# Altium footprint library 插座.PcbLib: 91 footprints (part 4 of 6)
Each footprint in its own frame and in the unit in brackets; x right, y up, seen from the top. Pads: shape width x height; smd on the part's side, far side on the other; paste and mask are expansions set on the pad; w line width, h text height; cw(c..) or ccw(c..) is an arc to the next point about the centre after c.
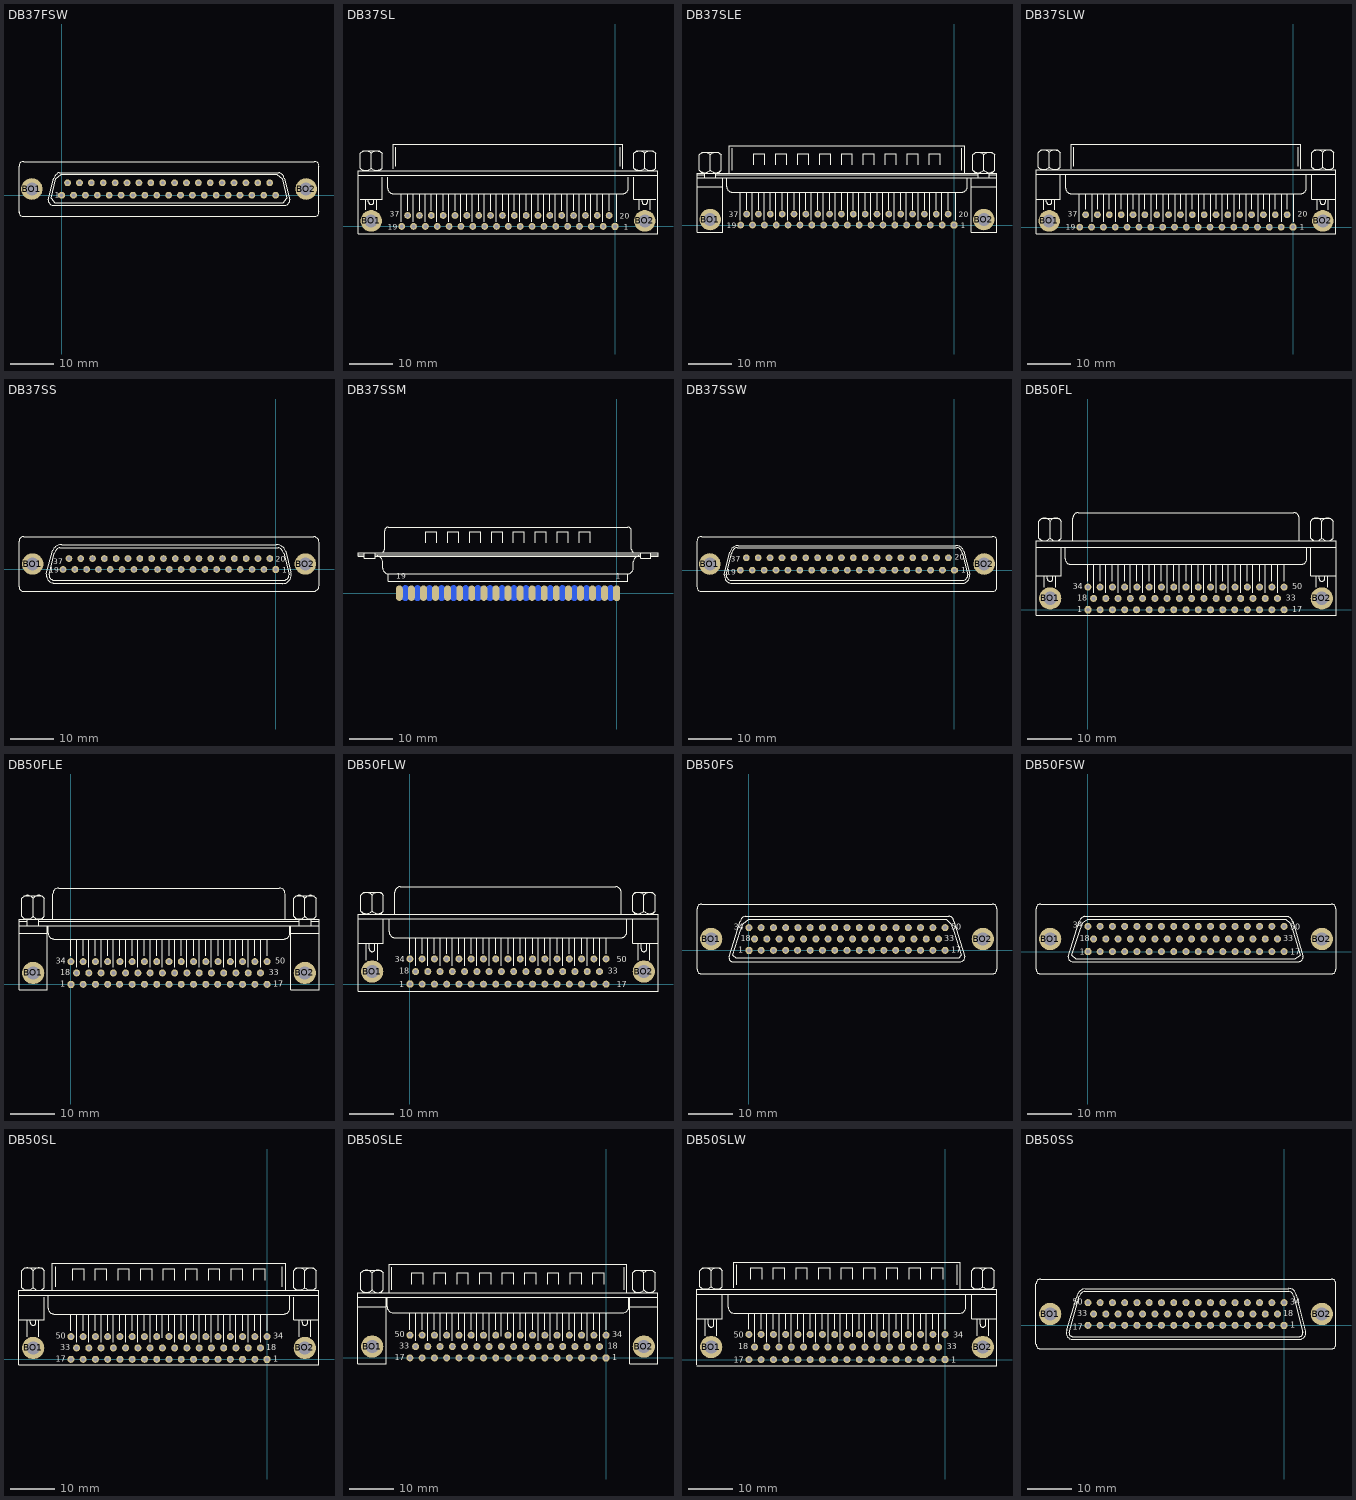
[diagram p3: the footprints below, top view; thin cyan lines are the x and y axes]

## DB37FSW [mil]
pads (39):
  oct 62x62 hole 35: 1(0,0)
  round 62 hole 35: 2(108.33,0) 3(216.67,0) 4(325,0) 5(433.33,0) 6(541.67,0) 7(650,0) 8(758.33,0) 9(866.67,0) 10(975,0) 11(1083.33,0) 12(1191.67,0) 13(1300,0) 14(1408.33,0) 15(1516.67,0) 16(1625,0) 17(1733.33,0) 18(1841.67,0) 19(1950,0) 20(54.17,113.33) 21(162.5,113.33) 22(270.83,113.33) 23(379.17,113.33) 24(487.5,113.33) 25(595.83,113.33) 26(704.17,113.33) 27(812.5,113.33) 28(920.83,113.33) 29(1029.17,113.33) 30(1137.5,113.33) 31(1245.83,113.33) 32(1354.17,113.33) 33(1462.5,113.33) 34(1570.83,113.33) 35(1679.17,113.33) 36(1787.5,113.33) 37(1895.83,113.33)
  round 196.67 hole 118.33: BO1(-271.67,56.67) BO2(2228.33,56.67)
TopOverlay:
  lines w8: -388.33,-160 -388.33,265 cw(c-346.67,265) -346.67,306.67 2303.33,306.67 cw(c2303.33,265) 2345,265 2345,-160 ; -388.33,-151.67 ccw(c-346.67,-151.67) -346.67,-193.33 2303.33,-193.33 ccw(c2303.33,-151.67) 2345,-151.67 ; -75.27,146.63 cw(c11.67,123.33) -22.05,206.78 ; -71.67,156.67 -121.67,-43.33 ccw(c-71.67,-43.33) -71.67,-93.33 2028.33,-93.33 ccw(c2028.33,-43.33) 2078.33,-43.33 2028.33,156.67 ; -21.67,206.67 1978.33,206.67 ; 1978.2,206.3 cw(c1961.67,140) 2027.97,156.53 ; -96.67,-26.67 -63.33,-68.33 2020,-68.33 2053.33,-26.67 2011.67,148.33 1961.67,190 -5,190 -55,148.33 -96.67,-26.67
  text "1" at -61.67,-23.33 h50

## DB37SL [mil]
pads (39):
  oct 62x62 hole 35: 1(0,0)
  round 62 hole 35: 2(-108.33,0) 3(-216.67,0) 4(-325,0) 5(-433.33,0) 6(-541.67,0) 7(-650,0) 8(-758.33,0) 9(-866.67,0) 10(-975,0) 11(-1083.33,0) 12(-1191.67,0) 13(-1300,0) 14(-1408.33,0) 15(-1516.67,0) 16(-1625,0) 17(-1733.33,0) 18(-1841.67,0) 19(-1950,0) 20(-54.17,100) 21(-162.5,100) 22(-270.83,100) 23(-379.17,100) 24(-487.5,100) 25(-595.83,100) 26(-704.17,100) 27(-812.5,100) 28(-920.83,100) 29(-1029.17,100) 30(-1137.5,100) 31(-1245.83,100) 32(-1354.17,100) 33(-1462.5,100) 34(-1570.83,100) 35(-1679.17,100) 36(-1787.5,100) 37(-1895.83,100)
  round 196.67 hole 118.33: BO1(-2228.33,50) BO2(271.67,50)
TopOverlay:
  lines w8: -2345,466.67 388.33,466.67 ; -2328.42,533.25 ccw(c-2278.33,583.33) -2228.25,533.25 ; -2328.42,666.75 cw(c-2278.33,616.67) -2228.25,666.75 ; -2328.33,250 -2128.33,250 -2128.33,450 ; -2303.33,508.33 -2328.33,533.33 -2328.33,541.67 -2328.33,666.67 -2303.33,691.67 -2153.33,691.67 -2128.33,666.67 -2128.33,658.33 -2128.33,533.33 -2153.33,508.33 ; -2278.33,150 -2278.33,250 ; -2253.33,250 -2253.33,225 ccw(c-2228.33,225) -2203.33,225 -2203.33,250 ; -2228.42,533.25 ccw(c-2178.33,583.33) -2128.25,533.25 ; -2228.42,666.75 cw(c-2178.33,616.67) -2128.25,666.75 ; -2228.33,533.33 -2228.33,666.67 ; -2178.33,150 -2178.33,250 ; -2078.33,450 -2078.33,350 ccw(c-2028.33,350) -2028.33,300 71.67,300 ccw(c71.67,350) 121.67,350 121.67,450 ; -2028.33,525 -2028.33,750 71.67,750 71.67,525 ; -2003.33,550 -2003.33,725 ; -1953.33,41.67 -1953.33,300 ; -1895,141.67 -1895,300 ; -1845,41.67 -1845,300 ; -1786.67,141.67 -1786.67,300 ; -1736.67,41.67 -1736.67,300 ; -1678.33,141.67 -1678.33,300 ; -1628.33,41.67 -1628.33,300 ; -1570,141.67 -1570,300 ; -1520,41.67 -1520,300 ; -1461.67,141.67 -1461.67,300 ; -1411.67,41.67 -1411.67,300 ; -1353.33,141.67 -1353.33,300 ; -1303.33,41.67 -1303.33,300 ; -1245,141.67 -1245,300 ; -1195,41.67 -1195,300 ; -1136.67,141.67 -1136.67,300 ; -1086.67,41.67 -1086.67,300 ; -1028.33,141.67 -1028.33,300 ; -970,41.67 -970,300 ; -920,141.67 -920,300 ; -870,41.67 -870,300 ; -811.67,141.67 -811.67,300 ; -761.67,41.67 -761.67,300 ; -703.33,141.67 -703.33,300 ; -653.33,41.67 -653.33,300 ; -595,141.67 -595,300 ; -545,41.67 -545,300 ; -486.67,141.67 -486.67,300 ; -436.67,41.67 -436.67,300 ; -378.33,141.67 -378.33,300 ; -328.33,41.67 -328.33,300 ; -270,141.67 -270,300 ; -220,41.67 -220,300 ; -161.67,141.67 -161.67,300 ; -111.67,41.67 -111.67,300 ; -53.33,141.67 -53.33,300 ; 13.33,41.67 13.33,300 ; 46.67,550 46.67,725 ; 171.58,533.25 ccw(c221.67,583.33) 271.75,533.25 ; 171.58,666.75 cw(c221.67,616.67) 271.75,666.75 ; 171.67,450 171.67,250 371.67,250 ; 196.67,508.33 171.67,533.33 171.67,541.67 171.67,666.67 196.67,691.67 346.67,691.67 371.67,666.67 371.67,533.33 346.67,508.33 ; 221.67,150 221.67,250 ; 246.67,250 246.67,225 ccw(c271.67,225) 296.67,225 296.67,250 ; 271.58,533.25 ccw(c321.67,583.33) 371.75,533.25 ; 271.58,666.75 cw(c321.67,616.67) 371.75,666.75 ; 271.67,533.33 271.67,666.67 ; 321.67,150 321.67,250 ; -2345,-66.67 -2345,508.33 388.33,508.33 388.33,-66.67 -2345,-66.67
  text "37" at -2058.33,90 h50
  text "19" at -2078.33,-30 h50
  text "1" at 81.67,-30 h50
  text "20" at 41.67,70 h50

## DB37SLE [mil]
pads (39):
  oct 62x62 hole 35: 1(0,0)
  round 62 hole 35: 2(-108.33,0) 3(-216.67,0) 4(-325,0) 5(-433.33,0) 6(-541.67,0) 7(-650,0) 8(-758.33,0) 9(-866.67,0) 10(-975,0) 11(-1083.33,0) 12(-1191.67,0) 13(-1300,0) 14(-1408.33,0) 15(-1516.67,0) 16(-1625,0) 17(-1733.33,0) 18(-1841.67,0) 19(-1950,0) 20(-54.17,100) 21(-162.5,100) 22(-270.83,100) 23(-379.17,100) 24(-487.5,100) 25(-595.83,100) 26(-704.17,100) 27(-812.5,100) 28(-920.83,100) 29(-1029.17,100) 30(-1137.5,100) 31(-1245.83,100) 32(-1354.17,100) 33(-1462.5,100) 34(-1570.83,100) 35(-1679.17,100) 36(-1787.5,100) 37(-1895.83,100)
  round 196.67 hole 118.33: BO1(-2228.33,50) BO2(271.67,50)
TopOverlay:
  lines w8: -2345,350 -2111.67,350 ; -2345,433.33 388.33,433.33 ; -2345,458.33 -2278.33,458.33 ; -2328.42,499.91 ccw(c-2278.33,550) -2228.25,499.91 ; -2328.42,641.75 cw(c-2278.33,591.67) -2228.25,641.75 ; -2303.33,475 -2328.33,500 -2328.33,641.67 -2303.33,666.67 -2153.33,666.67 -2128.33,641.67 -2128.33,500 -2153.33,475 ; -2278.33,433.33 -2278.33,475 ; -2228.42,499.91 ccw(c-2178.33,550) -2128.25,499.91 ; -2228.42,641.75 cw(c-2178.33,591.67) -2128.25,641.75 ; -2228.33,500 -2228.33,641.67 ; -2178.33,433.33 -2178.33,475 ; -2178.33,458.33 221.67,458.33 ; -2111.67,433.33 -2111.67,-66.67 -2345,-66.67 -2345,475 388.33,475 388.33,-66.67 155,-66.67 155,433.33 ; -2078.33,433.33 -2078.33,350 ccw(c-2028.33,350) -2028.33,300 71.67,300 ccw(c71.67,350) 121.67,350 121.67,433.33 ; -2053.33,475 -2053.33,725 96.67,725 96.67,475 ; -2028.33,500 -2028.33,700 ; -1953.33,41.67 -1953.33,300 ; -1895,141.67 -1895,300 ; -1845,41.67 -1845,300 ; -1828.33,550 -1828.33,650 -1728.33,650 -1728.33,550 ; -1786.67,141.67 -1786.67,300 ; -1736.67,41.67 -1736.67,300 ; -1678.33,141.67 -1678.33,300 ; -1628.33,41.67 -1628.33,300 ; -1628.33,550 -1628.33,650 -1528.33,650 -1528.33,550 ; -1570,141.67 -1570,300 ; -1520,41.67 -1520,300 ; -1461.67,141.67 -1461.67,300 ; -1428.33,550 -1428.33,650 -1328.33,650 -1328.33,550 ; -1411.67,41.67 -1411.67,300 ; -1353.33,141.67 -1353.33,300 ; -1303.33,41.67 -1303.33,300 ; -1245,141.67 -1245,300 ; -1228.33,550 -1228.33,650 -1128.33,650 -1128.33,550 ; -1195,41.67 -1195,300 ; -1136.67,141.67 -1136.67,300 ; -1086.67,41.67 -1086.67,300 ; -1028.33,141.67 -1028.33,300 ; -1028.33,550 -1028.33,650 -928.33,650 -928.33,550 ; -970,41.67 -970,300 ; -920,141.67 -920,300 ; -870,41.67 -870,300 ; -828.33,550 -828.33,650 -728.33,650 -728.33,550 ; -811.67,141.67 -811.67,300 ; -761.67,41.67 -761.67,300 ; -703.33,141.67 -703.33,300 ; -653.33,41.67 -653.33,300 ; -628.33,550 -628.33,650 -528.33,650 -528.33,550 ; -595,141.67 -595,300 ; -545,41.67 -545,300 ; -486.67,141.67 -486.67,300 ; -436.67,41.67 -436.67,300 ; -428.33,550 -428.33,650 -328.33,650 -328.33,550 ; -378.33,141.67 -378.33,300 ; -328.33,41.67 -328.33,300 ; -270,141.67 -270,300 ; -228.33,550 -228.33,650 -128.33,650 -128.33,550 ; -220,41.67 -220,300 ; -161.67,141.67 -161.67,300 ; -111.67,41.67 -111.67,300 ; -53.33,141.67 -53.33,300 ; 13.33,41.67 13.33,300 ; 71.67,500 71.67,700 ; 155,350 388.33,350 ; 171.58,499.91 ccw(c221.67,550) 271.75,499.91 ; 171.58,641.75 cw(c221.67,591.67) 271.75,641.75 ; 196.67,475 171.67,500 171.67,641.67 196.67,666.67 346.67,666.67 371.67,641.67 371.67,633.33 371.67,500 346.67,475 ; 221.67,433.33 221.67,475 ; 271.58,499.91 ccw(c321.67,550) 371.75,499.91 ; 271.58,641.75 cw(c321.67,591.67) 371.75,641.75 ; 271.67,500 271.67,641.67 ; 321.67,433.33 321.67,475 ; 321.67,458.33 388.33,458.33
  text "1" at 61.67,-30 h50
  text "20" at 41.67,70 h50
  text "37" at -2058.33,70 h50
  text "19" at -2078.33,-30 h50

## DB37SLW [mil]
pads (39):
  oct 62x62 hole 35: 1(0,0)
  round 62 hole 35: 2(-108.33,0) 3(-216.67,0) 4(-325,0) 5(-433.33,0) 6(-541.67,0) 7(-650,0) 8(-758.33,0) 9(-866.67,0) 10(-975,0) 11(-1083.33,0) 12(-1191.67,0) 13(-1300,0) 14(-1408.33,0) 15(-1516.67,0) 16(-1625,0) 17(-1733.33,0) 18(-1841.67,0) 19(-1950,0) 20(-54.17,113.33) 21(-162.5,113.33) 22(-270.83,113.33) 23(-379.17,113.33) 24(-487.5,113.33) 25(-595.83,113.33) 26(-704.17,113.33) 27(-812.5,113.33) 28(-920.83,113.33) 29(-1029.17,113.33) 30(-1137.5,113.33) 31(-1245.83,113.33) 32(-1354.17,113.33) 33(-1462.5,113.33) 34(-1570.83,113.33) 35(-1679.17,113.33) 36(-1787.5,113.33) 37(-1895.83,113.33)
  round 196.67 hole 118.33: BO1(-2228.33,56.67) BO2(271.67,56.67)
TopOverlay:
  lines w8: -2345,256.67 -2128.33,256.67 -2128.33,481.67 ; -2345,481.67 388.33,481.67 ; -2328.42,548.25 ccw(c-2278.33,598.33) -2228.25,548.25 ; -2328.42,681.75 cw(c-2278.33,631.67) -2228.25,681.75 ; -2303.33,523.33 -2328.33,548.33 -2328.33,556.67 -2328.33,681.67 -2303.33,706.67 -2153.33,706.67 -2128.33,681.67 -2128.33,548.33 -2153.33,523.33 ; -2278.33,156.67 -2278.33,256.67 ; -2253.33,256.67 -2253.33,231.67 ccw(c-2228.33,231.67) -2203.33,231.67 -2203.33,256.67 ; -2228.42,548.25 ccw(c-2178.33,598.33) -2128.25,548.25 ; -2228.42,681.75 cw(c-2178.33,631.67) -2128.25,681.75 ; -2228.33,548.33 -2228.33,681.67 ; -2178.33,156.67 -2178.33,256.67 ; -2078.33,481.67 -2078.33,356.67 ccw(c-2028.33,356.67) -2028.33,306.67 71.67,306.67 ccw(c71.67,356.67) 121.67,356.67 121.67,481.67 ; -2028.33,531.67 -2028.33,756.67 71.67,756.67 71.67,531.67 ; -2003.33,556.67 -2003.33,731.67 ; -1953.33,48.33 -1953.33,306.67 ; -1895,165 -1895,306.67 ; -1836.67,48.33 -1836.67,306.67 ; -1786.67,165 -1786.67,306.67 ; -1728.33,48.33 -1728.33,306.67 ; -1678.33,165 -1678.33,306.67 ; -1620,48.33 -1620,306.67 ; -1570,165 -1570,306.67 ; -1511.67,48.33 -1511.67,306.67 ; -1461.67,165 -1461.67,306.67 ; -1403.33,48.33 -1403.33,306.67 ; -1353.33,165 -1353.33,306.67 ; -1295,48.33 -1295,306.67 ; -1245,165 -1245,306.67 ; -1186.67,48.33 -1186.67,306.67 ; -1136.67,165 -1136.67,306.67 ; -1078.33,48.33 -1078.33,306.67 ; -1028.33,165 -1028.33,306.67 ; -978.33,48.33 -978.33,306.67 ; -920,165 -920,306.67 ; -861.67,48.33 -861.67,306.67 ; -811.67,165 -811.67,306.67 ; -753.33,48.33 -753.33,306.67 ; -703.33,165 -703.33,306.67 ; -645,48.33 -645,306.67 ; -595,165 -595,306.67 ; -536.67,48.33 -536.67,306.67 ; -486.67,165 -486.67,306.67 ; -428.33,48.33 -428.33,306.67 ; -378.33,165 -378.33,306.67 ; -320,48.33 -320,306.67 ; -270,165 -270,306.67 ; -211.67,48.33 -211.67,306.67 ; -161.67,165 -161.67,306.67 ; -103.33,48.33 -103.33,306.67 ; -53.33,165 -53.33,306.67 ; 5,48.33 5,306.67 ; 46.67,556.67 46.67,731.67 ; 171.58,548.25 ccw(c221.67,598.33) 271.75,548.25 ; 171.58,681.75 cw(c221.67,631.67) 271.75,681.75 ; 171.67,481.67 171.67,256.67 388.33,256.67 ; 196.67,523.33 171.67,548.33 171.67,556.67 171.67,681.67 196.67,706.67 346.67,706.67 371.67,681.67 371.67,548.33 346.67,523.33 ; 221.67,156.67 221.67,256.67 ; 246.67,256.67 246.67,231.67 ccw(c271.67,231.67) 296.67,231.67 296.67,256.67 ; 271.58,548.25 ccw(c321.67,598.33) 371.75,548.25 ; 271.58,681.75 cw(c321.67,631.67) 371.75,681.75 ; 271.67,548.33 271.67,681.67 ; 321.67,156.67 321.67,256.67 ; -2345,-60 -2345,523.33 388.33,523.33 388.33,-60 -2345,-60
  text "37" at -2058.33,96.67 h50
  text "19" at -2078.33,-23.33 h50
  text "1" at 61.67,-23.33 h50
  text "20" at 41.67,96.67 h50

## DB37SS [mil]
pads (39):
  oct 62x62 hole 35: 1(0,0)
  round 62 hole 35: 2(-108.33,0) 3(-216.67,0) 4(-325,0) 5(-433.33,0) 6(-541.67,0) 7(-650,0) 8(-758.33,0) 9(-866.67,0) 10(-975,0) 11(-1083.33,0) 12(-1191.67,0) 13(-1300,0) 14(-1408.33,0) 15(-1516.67,0) 16(-1625,0) 17(-1733.33,0) 18(-1841.67,0) 19(-1950,0) 20(-54.17,100) 21(-162.5,100) 22(-270.83,100) 23(-379.17,100) 24(-487.5,100) 25(-595.83,100) 26(-704.17,100) 27(-812.5,100) 28(-920.83,100) 29(-1029.17,100) 30(-1137.5,100) 31(-1245.83,100) 32(-1354.17,100) 33(-1462.5,100) 34(-1570.83,100) 35(-1679.17,100) 36(-1787.5,100) 37(-1895.83,100)
  round 196.67 hole 118.33: BO1(-2228.33,50) BO2(271.67,50)
TopOverlay:
  lines w8: -2103.33,-41.67 -2045,175 ; -2102.92,-42.16 ccw(c-2028.33,-50) -2028.33,-125 63.33,-125 ; -2044.83,175.71 cw(c-1961.67,133.33) -1961.67,226.67 5,226.67 cw(c5,133.33) 91.54,168.3 ; -2028.33,150 -2078.33,-50 ccw(c-2028.33,-50) -2028.33,-100 71.67,-100 ccw(c71.67,-50) 121.67,-50 71.67,150 ; -2027.97,149.86 cw(c-1961.67,133.33) -1978.2,199.64 ; -1978.33,200 21.67,200 ; 21.53,199.64 cw(c5,133.33) 71.3,149.86 ; 63.33,-129.17 ccw(c63.33,-50) 138.62,-25.54 ; 91.67,168.33 138.33,-25 ; -2353.33,-158.33 ccw(c-2311.67,-158.33) -2311.67,-200 346.67,-200 ccw(c346.67,-150) 396.67,-150 396.67,250 ccw(c346.67,250) 346.67,300 -2311.67,300 ccw(c-2311.67,258.33) -2353.33,258.33 -2353.33,-158.33
  text "1" at 61.67,-30 h50
  text "19" at -2078.33,-30 h50
  text "37" at -2038.33,50 h50
  text "20" at 1.67,70 h50

## DB37SSM [mil]
pads (37):
  oct 62.5x141.67 smd: 1(0,0)
  oval 62.5x141.67 smd: 2(-110,0) 3(-220,0) 4(-330,0) 5(-440,0) 6(-550,0) 7(-660,0) 8(-770,0) 9(-880,0) 10(-990,0) 11(-1100,0) 12(-1210,0) 13(-1320,0) 14(-1430,0) 15(-1540,0) 16(-1650,0) 17(-1760,0) 18(-1870,0) 19(-1980,0)
  oval 62.5x141.67 smd far side: 20(-55,0) 21(-165,0) 22(-275,0) 23(-385,0) 24(-495,0) 25(-605,0) 26(-715,0) 27(-825,0) 28(-935,0) 29(-1045,0) 30(-1155,0) 31(-1265,0) 32(-1375,0) 33(-1485,0) 34(-1595,0) 35(-1705,0) 36(-1815,0) 37(-1925,0)
TopOverlay:
  lines w8: -2356.67,351.67 -2298.33,351.67 ; -2298.33,335 -2356.67,335 -2356.67,368.33 376.67,368.33 376.67,335 310,335 ; -2298.33,368.33 -2298.33,318.33 -2198.33,318.33 -2198.33,368.33 ; -2198.33,335 218.33,335 ; -2198.33,351.67 218.33,351.67 ; -2181.67,335 cw(c-2181.67,285) -2131.67,285 -2131.67,226.67 ccw(c-2081.67,226.67) -2081.67,176.67 ; -2148.33,368.33 ccw(c-2148.33,401.67) -2115,401.67 -2115,568.33 cw(c-2081.67,568.33) -2081.67,601.67 101.67,601.67 cw(c101.67,568.33) 135,568.33 135,401.67 ccw(c168.33,401.67) 168.33,368.33 ; -1740,460 -1740,560 -1640,560 -1640,460 ; -1540,460 -1540,560 -1440,560 -1440,460 ; -1340,460 -1340,560 -1240,560 -1240,460 ; -1140,460 -1140,560 -1040,560 -1040,460 ; -940,460 -940,560 -840,560 -840,460 ; -740,460 -740,560 -640,560 -640,460 ; -540,460 -540,560 -440,560 -440,460 ; -340,460 -340,560 -240,560 -240,460 ; 201.67,335 ccw(c201.67,285) 151.67,285 151.67,226.67 cw(c101.67,226.67) 101.67,176.67 ; 218.33,368.33 218.33,318.33 310,318.33 310,368.33 ; 310,351.67 376.67,351.67 ; -2081.67,176.67 -2081.67,110 101.67,110 101.67,176.67 ; -2081.67,176.67 101.67,176.67
  text "1" at -10,130 h50
  text "19" at -2010,130 h50

## DB37SSW [mil]
pads (39):
  oct 62x62 hole 35: 1(0,0)
  round 62 hole 35: 2(-108.33,0) 3(-216.67,0) 4(-325,0) 5(-433.33,0) 6(-541.67,0) 7(-650,0) 8(-758.33,0) 9(-866.67,0) 10(-975,0) 11(-1083.33,0) 12(-1191.67,0) 13(-1300,0) 14(-1408.33,0) 15(-1516.67,0) 16(-1625,0) 17(-1733.33,0) 18(-1841.67,0) 19(-1950,0) 20(-54.17,113.33) 21(-162.5,113.33) 22(-270.83,113.33) 23(-379.17,113.33) 24(-487.5,113.33) 25(-595.83,113.33) 26(-704.17,113.33) 27(-812.5,113.33) 28(-920.83,113.33) 29(-1029.17,113.33) 30(-1137.5,113.33) 31(-1245.83,113.33) 32(-1354.17,113.33) 33(-1462.5,113.33) 34(-1570.83,113.33) 35(-1679.17,113.33) 36(-1787.5,113.33) 37(-1895.83,113.33)
  round 196.67 hole 118.33: BO1(-2228.33,56.67) BO2(271.67,56.67)
TopOverlay:
  lines w8: -2095,-43.33 -2045,165 ; -2094.5,-43.54 ccw(c-2028.33,-51.67) -2028.33,-118.33 80,-118.33 ; -2044.7,165.58 cw(c-1970,148.33) -1970,225 13.33,225 cw(c13.33,148.33) 86.25,172.02 ; -2028.59,156.57 cw(c-1970,148.33) -1978.23,206.92 ; -2028.33,156.67 -2078.33,-43.33 ccw(c-2028.33,-43.33) -2028.33,-93.33 71.67,-93.33 ccw(c71.67,-43.33) 121.67,-43.33 71.67,156.67 ; -1978.33,206.67 21.67,206.67 ; 21.57,206.92 cw(c13.33,148.33) 71.92,156.57 ; 79.89,-118.66 ccw(c71.67,-51.67) 137.16,-35.34 ; 85,171.67 138.33,-35 ; 387.57,-143.72 cw(c346.67,-151.67) 346.67,-193.33 -2303.33,-193.33 cw(c-2303.33,-151.67) -2345,-151.67 -2345,265 cw(c-2303.33,265) -2303.33,306.67 346.67,306.67 cw(c346.67,265) 388.33,265 388.33,-151.67
  text "20" at 1.67,96.67 h50
  text "1" at 61.67,-23.33 h50
  text "37" at -2038.33,76.67 h50
  text "19" at -2078.33,-43.33 h50

## DB50FL [mil]
pads (52):
  oct 62x62 hole 35: 1(0,0)
  round 62 hole 35: 2(108.33,0) 3(216.67,0) 4(325,0) 5(430,0) 6(541.67,0) 7(650,0) 8(758.33,0) 9(866.67,0) 10(975,0) 11(1083.33,0) 12(1191.67,0) 13(1296.67,0) 14(1408.33,0) 15(1516.67,0) 16(1625,0) 17(1733.33,0) 18(50,100) 19(158.33,100) 20(266.67,100) 21(375,100) 22(483.33,100) 23(591.67,100) 24(700,100) 25(808.33,100) 26(916.67,100) 27(1025,100) 28(1133.33,100) 29(1241.67,100) 30(1350,100) 31(1458.33,100) 32(1566.67,100) 33(1675,100) 34(0,200) 35(108.33,200) 36(216.67,200) 37(325,200) 38(433.33,200) 39(541.67,200) 40(650,200) 41(758.33,200) 42(866.67,200) 43(975,200) 44(1083.33,200) 45(1191.67,200) 46(1300,200) 47(1408.33,200) 48(1516.67,200) 49(1625,200) 50(1733.33,200)
  round 196.67 hole 118.33: BO1(-333.33,100) BO2(2066.67,100)
TopOverlay:
  lines w8: -458.33,300 -233.33,300 -233.33,550 ; -458.33,550 2191.67,550 ; -433.13,633.22 ccw(c-383.33,675) -333.54,633.22 ; -433.08,783.55 cw(c-383.33,750) -333.59,783.55 ; -408.33,608.33 -433.33,633.33 -433.33,783.33 -408.33,808.33 -258.33,808.33 -233.33,783.33 -233.33,633.33 -258.33,608.33 ; -383.33,200 -383.33,300 ; -358.33,300 -358.33,275 ccw(c-333.33,275) -308.33,275 -308.33,300 ; -333.33,633.33 -333.33,783.33 ; -333.13,633.22 ccw(c-283.33,675) -233.54,633.22 ; -333.08,783.55 cw(c-283.33,750) -233.59,783.55 ; -283.33,200 -283.33,300 ; -200,541.67 -200,450 ccw(c-150,450) -150,400 1883.33,400 ccw(c1883.33,450) 1933.33,450 1933.33,541.67 ; -133.33,608.33 -133.33,808.33 cw(c-83.33,808.33) -83.33,858.33 1816.67,858.33 cw(c1816.67,808.33) 1866.67,808.33 1866.67,608.33 ; 0,250 0,400 ; 50,150 50,400 ; 108.33,250 108.33,400 ; 158.33,150 158.33,400 ; 216.67,250 216.67,400 ; 266.67,150 266.67,400 ; 325,250 325,400 ; 375,150 375,400 ; 433.33,250 433.33,400 ; 483.33,150 483.33,400 ; 541.67,250 541.67,400 ; 591.67,150 591.67,400 ; 650,250 650,400 ; 700,150 700,400 ; 758.33,250 758.33,400 ; 808.33,150 808.33,400 ; 866.67,250 866.67,400 ; 916.67,166.67 916.67,150 916.67,400 ; 975,250 975,400 ; 1025,150 1025,400 ; 1083.33,250 1083.33,400 ; 1133.33,150 1133.33,400 ; 1191.67,250 1191.67,400 ; 1241.67,150 1241.67,400 ; 1300,250 1300,400 ; 1350,150 1350,400 ; 1408.33,250 1408.33,400 ; 1458.33,150 1458.33,400 ; 1516.67,250 1516.67,400 ; 1566.67,150 1566.67,400 ; 1625,250 1625,400 ; 1675,150 1675,400 ; 1733.33,250 1733.33,400 ; 1966.67,550 1966.67,300 2191.67,300 ; 1966.87,633.22 ccw(c2016.67,675) 2066.46,633.22 ; 1966.92,783.55 cw(c2016.67,750) 2066.41,783.55 ; 1991.67,608.33 1966.67,633.33 1966.67,783.33 1991.67,808.33 2141.67,808.33 2166.67,783.33 2166.67,633.33 2141.67,608.33 ; 2016.67,200 2016.67,300 ; 2041.67,300 2041.67,275 ccw(c2066.67,275) 2091.67,275 2091.67,300 ; 2066.67,633.33 2066.67,783.33 ; 2066.87,633.22 ccw(c2116.67,675) 2166.46,633.22 ; 2066.92,783.55 cw(c2116.67,750) 2166.41,783.55 ; 2116.67,200 2116.67,300 ; -458.33,-50 2191.67,-50 2191.67,608.33 -458.33,608.33 -458.33,-50
  text "34" at -133.33,180 h50
  text "50" at 1806.67,180 h50
  text "33" at 1746.67,80 h50
  text "17" at 1806.67,-20 h50
  text "1" at -93.33,-20 h50
  text "18" at -93.33,80 h50

## DB50FLE [mil]
pads (52):
  oct 62x62 hole 35: 1(0,0)
  round 62 hole 35: 2(108.33,0) 3(216.67,0) 4(325,0) 5(430,0) 6(541.67,0) 7(650,0) 8(758.33,0) 9(866.67,0) 10(975,0) 11(1083.33,0) 12(1191.67,0) 13(1296.67,0) 14(1408.33,0) 15(1516.67,0) 16(1625,0) 17(1733.33,0) 18(50,100) 19(158.33,100) 20(266.67,100) 21(375,100) 22(483.33,100) 23(591.67,100) 24(700,100) 25(808.33,100) 26(916.67,100) 27(1025,100) 28(1133.33,100) 29(1241.67,100) 30(1350,100) 31(1458.33,100) 32(1566.67,100) 33(1675,100) 34(0,200) 35(108.33,200) 36(216.67,200) 37(325,200) 38(433.33,200) 39(541.67,200) 40(650,200) 41(758.33,200) 42(866.67,200) 43(975,200) 44(1083.33,200) 45(1191.67,200) 46(1300,200) 47(1408.33,200) 48(1516.67,200) 49(1625,200) 50(1733.33,200)
  round 196.67 hole 118.33: BO1(-333.33,100) BO2(2066.67,100)
TopOverlay:
  lines w8: -458.33,450 -208.33,450 ; -458.33,516.67 2191.67,516.67 ; -458.33,558.33 -383.33,558.33 ; -433.13,599.88 ccw(c-383.33,641.67) -333.54,599.88 ; -433.08,758.55 cw(c-383.33,725) -333.59,758.55 ; -408.33,575 -433.33,600 -433.33,758.33 -408.33,783.33 -258.33,783.33 -233.33,758.33 -233.33,600 -258.33,575 ; -383.33,516.67 -383.33,575 ; -333.33,600 -333.33,758.33 ; -333.13,599.88 ccw(c-283.33,641.67) -233.54,599.88 ; -333.08,758.55 cw(c-283.33,725) -233.59,758.55 ; -283.33,516.67 -283.33,575 ; -283.33,558.33 2016.67,558.33 ; -208.33,516.67 -208.33,-50 -458.33,-50 -458.33,575 2191.67,575 2191.67,-50 1941.67,-50 1941.67,516.67 ; -200,516.67 -200,450 ccw(c-150,450) -150,400 1883.33,400 ccw(c1883.33,450) 1933.33,450 1933.33,516.67 ; -158.33,575 -158.33,800 cw(c-108.33,800) -108.33,850 1841.67,850 cw(c1841.67,800) 1891.67,800 1891.67,575 ; 0,250 0,400 ; 50,150 50,400 ; 108.33,250 108.33,400 ; 158.33,150 158.33,400 ; 216.67,250 216.67,400 ; 266.67,150 266.67,400 ; 325,250 325,400 ; 375,150 375,400 ; 433.33,250 433.33,400 ; 483.33,150 483.33,400 ; 541.67,250 541.67,400 ; 591.67,150 591.67,400 ; 650,250 650,400 ; 700,150 700,400 ; 758.33,250 758.33,400 ; 808.33,150 808.33,400 ; 866.67,250 866.67,400 ; 916.67,166.67 916.67,150 916.67,400 ; 975,250 975,400 ; 1025,150 1025,400 ; 1083.33,250 1083.33,400 ; 1133.33,150 1133.33,400 ; 1191.67,250 1191.67,400 ; 1241.67,150 1241.67,400 ; 1300,250 1300,400 ; 1350,150 1350,400 ; 1408.33,250 1408.33,400 ; 1458.33,150 1458.33,400 ; 1516.67,250 1516.67,400 ; 1566.67,150 1566.67,400 ; 1625,250 1625,400 ; 1675,150 1675,400 ; 1733.33,250 1733.33,400 ; 1941.67,450 2191.67,450 ; 1966.87,599.88 ccw(c2016.67,641.67) 2066.46,599.88 ; 1966.92,758.55 cw(c2016.67,725) 2066.41,758.55 ; 1991.67,575 1966.67,600 1966.67,758.33 1991.67,783.33 2141.67,783.33 2166.67,758.33 2166.67,600 2141.67,575 ; 2016.67,516.67 2016.67,575 ; 2066.67,600 2066.67,758.33 ; 2066.87,599.88 ccw(c2116.67,641.67) 2166.46,599.88 ; 2066.92,758.55 cw(c2116.67,725) 2166.41,758.55 ; 2125,516.67 2125,575 ; 2125,558.33 2191.67,558.33
  text "50" at 1806.67,180 h50
  text "33" at 1746.67,80 h50
  text "17" at 1786.67,-20 h50
  text "1" at -93.33,-20 h50
  text "18" at -93.33,80 h50
  text "34" at -133.33,180 h50

## DB50FLW [mil]
pads (52):
  oct 62x62 hole 35: 1(0,0)
  round 62 hole 35: 2(108.33,0) 3(216.67,0) 4(325,0) 5(433.33,0) 6(541.67,0) 7(650,0) 8(758.33,0) 9(866.67,0) 10(975,0) 11(1083.33,0) 12(1191.67,0) 13(1300,0) 14(1408.33,0) 15(1516.67,0) 16(1625,0) 17(1733.33,0) 18(50,111.67) 19(158.33,111.67) 20(266.67,111.67) 21(375,111.67) 22(483.33,111.67) 23(591.67,111.67) 24(700,111.67) 25(808.33,111.67) 26(916.67,111.67) 27(1025,111.67) 28(1133.33,111.67) 29(1241.67,111.67) 30(1350,111.67) 31(1458.33,111.67) 32(1566.67,111.67) 33(1675,111.67) 34(0,223.33) 35(108.33,223.33) 36(216.67,223.33) 37(325,223.33) 38(433.33,223.33) 39(541.67,223.33) 40(650,223.33) 41(758.33,223.33) 42(866.67,223.33) 43(975,223.33) 44(1083.33,223.33) 45(1191.67,223.33) 46(1300,223.33) 47(1408.33,223.33) 48(1516.67,223.33) 49(1625,223.33) 50(1733.33,223.33)
  round 196.67 hole 118.33: BO1(-333.33,111.67) BO2(2066.67,111.67)
TopOverlay:
  lines w8: -458.33,361.67 -233.33,361.67 -233.33,578.33 ; -458.33,578.33 2191.67,578.33 ; -433.42,644.91 ccw(c-383.33,695) -333.25,644.91 ; -433.42,786.75 cw(c-383.33,736.67) -333.25,786.75 ; -408.33,620 -433.33,645 -433.33,786.67 -408.33,811.67 -258.33,811.67 -233.33,786.67 -233.33,778.33 -233.33,645 -258.33,620 ; -383.33,211.67 -383.33,361.67 ; -358.33,361.67 -358.33,311.67 ccw(c-333.33,311.67) -308.33,311.67 -308.33,361.67 ; -333.42,644.91 ccw(c-283.33,695) -233.25,644.91 ; -333.42,786.75 cw(c-283.33,736.67) -233.25,786.75 ; -333.33,645 -333.33,786.67 ; -283.33,211.67 -283.33,236.67 -283.33,361.67 ; -183.33,578.33 -183.33,461.67 ccw(c-133.33,461.67) -133.33,411.67 1866.67,411.67 ccw(c1866.67,461.67) 1916.67,461.67 1916.67,578.33 ; -133.33,620 -133.33,811.67 cw(c-83.33,811.67) -83.33,861.67 1816.67,861.67 cw(c1816.67,811.67) 1866.67,811.67 1866.67,620 ; 0,270 0,411.67 ; 50,161.67 50,411.67 ; 108.33,270 108.33,411.67 ; 158.33,161.67 158.33,411.67 ; 216.67,270 216.67,411.67 ; 266.67,161.67 266.67,411.67 ; 325,270 325,411.67 ; 375,161.67 375,411.67 ; 433.33,270 433.33,411.67 ; 483.33,161.67 483.33,411.67 ; 541.67,270 541.67,411.67 ; 591.67,161.67 591.67,411.67 ; 650,270 650,411.67 ; 700,161.67 700,411.67 ; 758.33,270 758.33,411.67 ; 808.33,161.67 808.33,411.67 ; 866.67,270 866.67,411.67 ; 916.67,161.67 916.67,411.67 ; 975,270 975,411.67 ; 1025,161.67 1025,411.67 ; 1083.33,270 1083.33,411.67 ; 1133.33,161.67 1133.33,411.67 ; 1191.67,270 1191.67,411.67 ; 1241.67,161.67 1241.67,411.67 ; 1300,270 1300,411.67 ; 1350,161.67 1350,411.67 ; 1408.33,270 1408.33,411.67 ; 1458.33,161.67 1458.33,411.67 ; 1516.67,270 1516.67,411.67 ; 1566.67,161.67 1566.67,411.67 ; 1625,270 1625,411.67 ; 1675,161.67 1675,411.67 ; 1733.33,270 1733.33,411.67 ; 1966.58,644.91 ccw(c2016.67,695) 2066.75,644.91 ; 1966.58,786.75 cw(c2016.67,736.67) 2066.75,786.75 ; 1966.67,578.33 1966.67,361.67 2191.67,361.67 ; 1991.67,620 1966.67,645 1966.67,786.67 1991.67,811.67 2141.67,811.67 2166.67,786.67 2166.67,778.33 2166.67,645 2141.67,620 ; 2016.67,211.67 2016.67,361.67 ; 2041.67,361.67 2041.67,311.67 ccw(c2066.67,311.67) 2091.67,311.67 2091.67,361.67 ; 2066.58,644.91 ccw(c2116.67,695) 2166.75,644.91 ; 2066.58,786.75 cw(c2116.67,736.67) 2166.75,786.75 ; 2066.67,645 2066.67,786.67 ; 2116.67,211.67 2116.67,361.67 ; -458.33,-63.33 -458.33,620 2191.67,620 2191.67,-63.33 -458.33,-63.33
  text "50" at 1826.67,191.67 h50
  text "33" at 1746.67,91.67 h50
  text "17" at 1826.67,-28.33 h50
  text "1" at -93.33,-28.33 h50
  text "18" at -93.33,91.67 h50
  text "34" at -133.33,191.67 h50

## DB50FS [mil]
pads (52):
  oct 62x62 hole 35: 1(0,0)
  round 62 hole 35: 2(108.33,0) 3(216.67,0) 4(325,0) 5(430,0) 6(541.67,0) 7(650,0) 8(758.33,0) 9(866.67,0) 10(975,0) 11(1083.33,0) 12(1191.67,0) 13(1296.67,0) 14(1408.33,0) 15(1516.67,0) 16(1625,0) 17(1733.33,0) 18(50,100) 19(158.33,100) 20(266.67,100) 21(375,100) 22(483.33,100) 23(591.67,100) 24(700,100) 25(808.33,100) 26(916.67,100) 27(1025,100) 28(1133.33,100) 29(1241.67,100) 30(1350,100) 31(1458.33,100) 32(1566.67,100) 33(1675,100) 34(0,200) 35(108.33,200) 36(216.67,200) 37(325,200) 38(433.33,200) 39(541.67,200) 40(650,200) 41(758.33,200) 42(866.67,200) 43(975,200) 44(1083.33,200) 45(1191.67,200) 46(1300,200) 47(1408.33,200) 48(1516.67,200) 49(1625,200) 50(1733.33,200)
  round 196.67 hole 118.33: BO1(-333.33,100) BO2(2066.67,100)
TopOverlay:
  lines w8: -175,-58.33 -75,258.33 ; -174.82,-58.4 ccw(c-141.67,-66.67) -133.4,-99.82 ; -133.33,-100 1866.67,-100 ccw(c1866.67,-58.33) 1908.33,-58.33 1808.33,258.33 ccw(c1766.67,258.33) 1766.67,300 -33.33,300 ; -75.21,257.95 cw(c-25,250) -32.95,300.21 ; -458.33,-166.67 ccw(c-416.67,-166.67) -416.67,-208.33 2150,-208.33 ccw(c2150,-166.67) 2191.66,-166.67 2191.67,366.67 ccw(c2150,366.67) 2150,408.33 -416.67,408.33 ccw(c-416.67,366.67) -458.33,366.67 -458.33,-166.67 ; -141.67,-41.67 -116.67,-66.67 1858.33,-66.67 1875,-41.67 1808.33,166.67 1783.33,233.33 1741.67,275 0,275 -50,233.33 -75,166.67 -141.67,-41.67
  text "34" at -133.33,180 h50
  text "18" at -73.33,80 h50
  text "1" at -93.33,-20 h50
  text "17" at 1786.67,-20 h50
  text "33" at 1726.67,80 h50
  text "50" at 1786.67,180 h50

## DB50FSW [mil]
pads (52):
  oct 62x62 hole 35: 1(0,0)
  round 62 hole 35: 2(108.33,0) 3(216.67,0) 4(325,0) 5(433.33,0) 6(541.67,0) 7(650,0) 8(758.33,0) 9(866.67,0) 10(975,0) 11(1083.33,0) 12(1191.67,0) 13(1300,0) 14(1408.33,0) 15(1516.67,0) 16(1625,0) 17(1733.33,0) 18(50,111.67) 19(158.33,111.67) 20(266.67,111.67) 21(375,111.67) 22(483.33,111.67) 23(591.67,111.67) 24(700,111.67) 25(808.33,111.67) 26(916.67,111.67) 27(1025,111.67) 28(1133.33,111.67) 29(1241.67,111.67) 30(1350,111.67) 31(1458.33,111.67) 32(1566.67,111.67) 33(1675,111.67) 34(0,223.33) 35(108.33,223.33) 36(216.67,223.33) 37(325,223.33) 38(433.33,223.33) 39(541.67,223.33) 40(650,223.33) 41(758.33,223.33) 42(866.67,223.33) 43(975,223.33) 44(1083.33,223.33) 45(1191.67,223.33) 46(1300,223.33) 47(1408.33,223.33) 48(1516.67,223.33) 49(1625,223.33) 50(1733.33,223.33)
  round 196.67 hole 118.33: BO1(-333.33,111.67) BO2(2066.67,111.67)
TopOverlay:
  lines w8: -75.14,270.1 cw(c-16.67,253.33) -33.43,311.81 ; -75,270 -175,-46.67 ccw(c-133.33,-46.67) -133.33,-88.33 1866.67,-88.33 ; -33.33,311.67 1766.67,311.67 ; 1766.31,310.21 cw(c1750,253.33) 1808.59,261.57 ; 1808.33,270 1900,-38.33 ; 1866.44,-88.39 ccw(c1858.33,-46.67) 1900.05,-38.56 ; -458.33,-155 ccw(c-416.67,-155) -416.67,-196.67 2150,-196.67 ccw(c2150,-155) 2191.66,-155 2191.67,378.33 ccw(c2150,378.33) 2150,420 -416.67,420 ccw(c-416.67,378.33) -458.33,378.33 -458.33,-155 ; -141.67,-30 -108.33,-63.33 1833.33,-63.33 1875,-30 1808.33,186.67 1783.33,253.33 1750,286.67 1733.33,286.67 0,286.67 -41.67,261.67 -66.67,195 -141.67,-30
  text "1" at -73.33,-28.33 h50
  text "18" at -73.33,91.67 h50
  text "34" at -133.33,211.67 h50
  text "17" at 1786.67,-28.33 h50
  text "33" at 1726.67,91.67 h50
  text "50" at 1786.67,191.67 h50

## DB50SL [mil]
pads (52):
  oct 62x62 hole 35: 1(0,0)
  round 62 hole 35: 2(-108.33,0) 3(-216.67,0) 4(-325,0) 5(-433.33,0) 6(-541.67,0) 7(-650,0) 8(-758.33,0) 9(-866.67,0) 10(-975,0) 11(-1083.33,0) 12(-1191.67,0) 13(-1300,0) 14(-1408.33,0) 15(-1516.67,0) 16(-1625,0) 17(-1733.33,0) 18(-58.33,100) 19(-166.67,100) 20(-275,100) 21(-383.33,100) 22(-491.67,100) 23(-600,100) 24(-708.33,100) 25(-816.67,100) 26(-925,100) 27(-1033.33,100) 28(-1141.67,100) 29(-1250,100) 30(-1358.33,100) 31(-1466.67,100) 32(-1575,100) 33(-1683.33,100) 34(0,200) 35(-108.33,200) 36(-216.67,200) 37(-325,200) 38(-433.33,200) 39(-541.67,200) 40(-650,200) 41(-758.33,200) 42(-866.67,200) 43(-975,200) 44(-1083.33,200) 45(-1191.67,200) 46(-1300,200) 47(-1408.33,200) 48(-1516.67,200) 49(-1625,200) 50(-1733.33,200)
  round 196.67 hole 118.33: BO1(-2066.67,100) BO2(333.33,100)
TopOverlay:
  lines w8: -2191.67,350 -1966.67,350 -1966.67,550 ; -2191.67,566.67 458.33,566.67 ; -2166.75,633.25 ccw(c-2116.67,683.33) -2066.58,633.25 ; -2166.46,783.45 cw(c-2116.67,741.67) -2066.87,783.45 ; -2141.67,608.33 -2166.67,633.33 -2166.67,783.33 -2141.67,808.33 -1991.67,808.33 -1966.67,783.33 -1966.67,633.33 -1991.67,608.33 ; -2116.67,200 -2116.67,350 ; -2091.67,350 -2091.67,325 ccw(c-2066.67,325) -2041.67,325 -2041.67,350 ; -2066.67,633.33 -2066.67,783.33 ; -2066.46,633.22 ccw(c-2016.67,675) -1966.87,633.22 ; -2066.46,783.45 cw(c-2016.67,741.67) -1966.87,783.45 ; -2016.67,200 -2016.67,350 ; -1933.33,566.67 -1933.33,450 ccw(c-1883.33,450) -1883.33,400 150,400 ccw(c150,450) 200,450 200,566.67 ; -1900,608.33 -1900,850 166.67,850 166.67,608.33 ; -1866.67,641.67 -1866.67,816.67 ; -1733.33,250 -1733.33,400 ; -1716.67,700 -1716.67,800 -1616.67,800 -1616.67,700 ; -1683.33,150 -1683.33,400 ; -1625,250 -1625,400 ; -1575,150 -1575,400 ; -1516.67,250 -1516.67,400 ; -1516.67,700 -1516.67,800 -1416.67,800 -1416.67,700 ; -1466.67,150 -1466.67,400 ; -1408.33,250 -1408.33,400 ; -1358.33,150 -1358.33,400 ; -1316.67,700 -1316.67,800 -1216.67,800 -1216.67,700 ; -1300,250 -1300,400 ; -1250,150 -1250,400 ; -1191.67,250 -1191.67,400 ; -1141.67,150 -1141.67,400 ; -1116.67,700 -1116.67,800 -1016.67,800 -1016.67,700 ; -1083.33,250 -1083.33,400 ; -1033.33,150 -1033.33,400 ; -975,250 -975,400 ; -925,191.67 -925,400 ; -916.67,700 -916.67,800 -816.67,800 -816.67,700 ; -866.67,250 -866.67,400 ; -816.67,150 -816.67,400 ; -758.33,250 -758.33,400 ; -716.67,700 -716.67,800 -616.67,800 -616.67,700 ; -708.33,150 -708.33,400 ; -650,250 -650,400 ; -600,150 -600,400 ; -541.67,250 -541.67,400 ; -516.67,700 -516.67,800 -416.67,800 -416.67,700 ; -491.67,150 -491.67,400 ; -433.33,250 -433.33,400 ; -383.33,150 -383.33,400 ; -325,250 -325,400 ; -316.67,700 -316.67,800 -216.67,800 -216.67,700 ; -275,150 -275,400 ; -216.67,250 -216.67,400 ; -166.67,150 -166.67,400 ; -116.67,700 -116.67,800 -16.67,800 -16.67,700 ; -108.33,250 -108.33,400 ; -58.33,150 -58.33,400 ; 0,250 0,400 ; 133.33,641.67 133.33,816.67 ; 233.25,633.25 ccw(c283.33,683.33) 333.42,633.25 ; 233.25,783.42 cw(c283.33,733.33) 333.42,783.42 ; 233.33,550 233.33,350 458.33,350 ; 258.33,608.33 250,616.67 233.33,633.33 233.33,783.33 258.33,808.33 408.33,808.33 433.33,783.33 433.33,633.33 408.33,608.33 ; 283.33,200 283.33,350 ; 308.33,350 308.33,325 ccw(c333.33,325) 358.33,325 358.33,350 ; 333.25,633.25 ccw(c383.33,683.33) 433.42,633.25 ; 333.25,783.42 cw(c383.33,733.33) 433.42,783.42 ; 333.33,633.33 333.33,783.33 ; 383.33,200 383.33,350 ; -2191.67,-50 458.33,-50 458.33,608.33 -2191.67,608.33 -2191.67,-50
  text "34" at 53.33,180 h50
  text "18" at -6.67,80 h50
  text "1" at 53.33,-20 h50
  text "17" at -1866.67,-20 h50
  text "33" at -1826.67,80 h50
  text "50" at -1866.67,180 h50

## DB50SLE [mil]
pads (52):
  oct 62x62 hole 35: 1(0,0)
  round 62 hole 35: 2(-108.33,0) 3(-216.67,0) 4(-325,0) 5(-433.33,0) 6(-541.67,0) 7(-650,0) 8(-758.33,0) 9(-866.67,0) 10(-975,0) 11(-1083.33,0) 12(-1191.67,0) 13(-1300,0) 14(-1408.33,0) 15(-1516.67,0) 16(-1625,0) 17(-1733.33,0) 18(-58.33,100) 19(-166.67,100) 20(-275,100) 21(-383.33,100) 22(-491.67,100) 23(-600,100) 24(-708.33,100) 25(-816.67,100) 26(-925,100) 27(-1033.33,100) 28(-1141.67,100) 29(-1250,100) 30(-1358.33,100) 31(-1466.67,100) 32(-1575,100) 33(-1683.33,100) 34(0,200) 35(-108.33,200) 36(-216.67,200) 37(-325,200) 38(-433.33,200) 39(-541.67,200) 40(-650,200) 41(-758.33,200) 42(-866.67,200) 43(-975,200) 44(-1083.33,200) 45(-1191.67,200) 46(-1300,200) 47(-1408.33,200) 48(-1516.67,200) 49(-1625,200) 50(-1733.33,200)
  round 196.67 hole 118.33: BO1(-2066.67,100) BO2(333.33,100)
TopOverlay:
  lines w8: -2191.67,450 -1941.67,450 ; -2191.67,533.33 458.33,533.33 ; -2166.75,599.91 ccw(c-2116.67,650) -2066.58,599.91 ; -2166.46,750.11 cw(c-2116.67,708.33) -2066.87,750.11 ; -2141.67,575 -2166.67,600 -2166.67,750 -2141.67,775 -1991.67,775 -1966.67,750 -1966.67,600 -1991.67,575 ; -2066.67,600 -2066.67,750 ; -2066.46,599.88 ccw(c-2016.67,641.67) -1966.87,599.88 ; -2066.46,750.11 cw(c-2016.67,708.33) -1966.87,750.11 ; -1941.67,533.33 -1941.67,-50 -2191.67,-50 -2191.67,575 458.33,575 458.33,-50 208.33,-50 208.33,533.33 ; -1933.33,533.33 -1933.33,450 ccw(c-1883.33,450) -1883.33,400 150,400 ccw(c150,450) 200,450 200,533.33 ; -1916.67,575 -1916.67,825 183.33,825 183.33,575 ; -1891.67,600 -1891.67,800 ; -1733.33,250 -1733.33,400 ; -1716.67,650 -1716.67,750 -1616.67,750 -1616.67,650 ; -1683.33,150 -1683.33,400 ; -1625,250 -1625,400 ; -1575,150 -1575,400 ; -1516.67,250 -1516.67,400 ; -1516.67,650 -1516.67,750 -1416.67,750 -1416.67,650 ; -1466.67,150 -1466.67,400 ; -1408.33,250 -1408.33,400 ; -1358.33,150 -1358.33,400 ; -1316.67,650 -1316.67,750 -1216.67,750 -1216.67,650 ; -1300,250 -1300,400 ; -1250,150 -1250,400 ; -1191.67,250 -1191.67,400 ; -1141.67,150 -1141.67,400 ; -1116.67,650 -1116.67,750 -1016.67,750 -1016.67,650 ; -1083.33,250 -1083.33,400 ; -1033.33,150 -1033.33,400 ; -975,250 -975,400 ; -925,191.67 -925,400 ; -916.67,650 -916.67,750 -816.67,750 -816.67,650 ; -866.67,250 -866.67,400 ; -816.67,150 -816.67,400 ; -758.33,250 -758.33,400 ; -716.67,650 -716.67,750 -616.67,750 -616.67,650 ; -708.33,150 -708.33,400 ; -650,250 -650,400 ; -600,150 -600,400 ; -541.67,250 -541.67,400 ; -516.67,650 -516.67,750 -416.67,750 -416.67,650 ; -491.67,150 -491.67,400 ; -433.33,250 -433.33,400 ; -383.33,150 -383.33,400 ; -325,250 -325,400 ; -316.67,650 -316.67,750 -216.67,750 -216.67,650 ; -275,150 -275,400 ; -216.67,250 -216.67,400 ; -166.67,150 -166.67,400 ; -116.67,650 -116.67,750 -16.67,750 -16.67,650 ; -108.33,250 -108.33,400 ; -58.33,150 -58.33,400 ; 0,250 0,400 ; 158.33,600 158.33,800 ; 208.33,450 458.33,450 ; 233.25,599.91 ccw(c283.33,650) 333.42,599.91 ; 233.25,750.09 cw(c283.33,700) 333.42,750.09 ; 258.33,575 233.33,600 233.33,750 258.33,775 408.33,775 433.33,750 433.33,600 408.33,575 ; 333.25,599.91 ccw(c383.33,650) 433.42,599.91 ; 333.25,750.09 cw(c383.33,700) 433.42,750.09 ; 333.33,600 333.33,750
  text "34" at 53.33,180 h50
  text "18" at 13.33,80 h50
  text "1" at 53.33,-20 h50
  text "17" at -1866.67,-20 h50
  text "33" at -1826.67,80 h50
  text "50" at -1866.67,180 h50

## DB50SLW [mil]
pads (52):
  oct 62x62 hole 35: 1(0,0)
  round 62 hole 35: 2(-108.33,0) 3(-216.67,0) 4(-325,0) 5(-433.33,0) 6(-541.67,0) 7(-650,0) 8(-758.33,0) 9(-866.67,0) 10(-975,0) 11(-1083.33,0) 12(-1191.67,0) 13(-1300,0) 14(-1408.33,0) 15(-1516.67,0) 16(-1625,0) 17(-1733.33,0) 18(-1683.33,111.67) 19(-1575,111.67) 20(-1466.67,111.67) 21(-1358.33,111.67) 22(-1250,111.67) 23(-1141.67,111.67) 24(-1033.33,111.67) 25(-925,111.67) 26(-816.67,111.67) 27(-708.33,111.67) 28(-600,111.67) 29(-491.67,111.67) 30(-383.33,111.67) 31(-275,111.67) 32(-166.67,111.67) 33(-58.33,111.67) 34(0,223.33) 35(-108.33,223.33) 36(-216.67,223.33) 37(-325,223.33) 38(-433.33,223.33) 39(-541.67,223.33) 40(-650,223.33) 41(-758.33,223.33) 42(-866.67,223.33) 43(-975,223.33) 44(-1083.33,223.33) 45(-1191.67,223.33) 46(-1300,223.33) 47(-1408.33,223.33) 48(-1516.67,223.33) 49(-1625,223.33) 50(-1733.33,223.33)
  round 196.67 hole 118.33: BO1(-2066.67,111.67) BO2(333.33,111.67)
TopOverlay:
  lines w8: -2191.67,-55 458.33,-55 458.33,620 -2191.67,620 -2191.67,-46.67 ; -2191.67,361.67 -1966.67,361.67 -1966.67,578.33 ; -2191.67,578.33 458.33,578.33 ; -2166.75,644.91 ccw(c-2116.67,695) -2066.58,644.91 ; -2166.75,786.75 cw(c-2116.67,736.67) -2066.58,786.75 ; -2141.67,620 -2166.67,645 -2166.67,786.67 -2141.67,811.67 -1991.67,811.67 -1966.67,786.67 -1966.67,778.33 -1966.67,645 -1991.67,620 ; -2116.67,211.67 -2116.67,361.67 ; -2091.67,361.67 -2091.67,311.67 ccw(c-2066.67,311.67) -2041.67,311.67 -2041.67,361.67 ; -2066.75,644.91 ccw(c-2016.67,695) -1966.58,644.91 ; -2066.75,786.75 cw(c-2016.67,736.67) -1966.58,786.75 ; -2066.67,645 -2066.67,786.67 ; -2016.67,211.67 -2016.67,361.67 ; -1916.67,578.33 -1916.67,461.67 ccw(c-1866.67,461.67) -1866.67,411.67 133.33,411.67 ccw(c133.33,461.67) 183.33,461.67 183.33,578.33 ; -1866.67,636.67 -1866.67,861.67 133.33,861.67 133.33,620 ; -1841.67,661.67 -1841.67,836.67 ; -1733.33,270 -1733.33,411.67 ; -1716.67,711.67 -1716.67,811.67 -1616.67,811.67 -1616.67,711.67 ; -1683.33,153.33 -1683.33,411.67 ; -1625,270 -1625,411.67 ; -1575,153.33 -1575,411.67 ; -1516.67,270 -1516.67,411.67 ; -1516.67,711.67 -1516.67,811.67 -1416.67,811.67 -1416.67,711.67 ; -1466.67,153.33 -1466.67,411.67 ; -1408.33,270 -1408.33,411.67 ; -1358.33,153.33 -1358.33,411.67 ; -1316.67,711.67 -1316.67,811.67 -1216.67,811.67 -1216.67,711.67 ; -1300,270 -1300,411.67 ; -1250,153.33 -1250,411.67 ; -1191.67,270 -1191.67,411.67 ; -1141.67,153.33 -1141.67,411.67 ; -1116.67,711.67 -1116.67,811.67 -1016.67,811.67 -1016.67,711.67 ; -1083.33,270 -1083.33,411.67 ; -1033.33,153.33 -1033.33,411.67 ; -975,270 -975,411.67 ; -925,153.33 -925,411.67 ; -916.67,711.67 -916.67,811.67 -816.67,811.67 -816.67,711.67 ; -866.67,270 -866.67,411.67 ; -816.67,203.33 -816.67,411.67 ; -758.33,270 -758.33,411.67 ; -716.67,711.67 -716.67,811.67 -616.67,811.67 -616.67,711.67 ; -708.33,153.33 -708.33,411.67 ; -650,270 -650,411.67 ; -600,153.33 -600,411.67 ; -541.67,270 -541.67,411.67 ; -516.67,711.67 -516.67,811.67 -416.67,811.67 -416.67,711.67 ; -491.67,153.33 -491.67,411.67 ; -433.33,270 -433.33,411.67 ; -383.33,153.33 -383.33,411.67 ; -325,270 -325,411.67 ; -316.67,711.67 -316.67,811.67 -216.67,811.67 -216.67,711.67 ; -275,153.33 -275,411.67 ; -216.67,270 -216.67,411.67 ; -166.67,153.33 -166.67,411.67 ; -116.67,711.67 -116.67,811.67 -16.67,811.67 -16.67,711.67 ; -108.33,270 -108.33,411.67 ; -58.33,153.33 -58.33,411.67 ; 0,270 0,411.67 ; 108.33,661.67 108.33,836.67 ; 233.25,644.91 ccw(c283.33,695) 333.42,644.91 ; 233.25,786.75 cw(c283.33,736.67) 333.42,786.75 ; 233.33,578.33 233.33,361.67 458.33,361.67 ; 258.33,620 233.33,645 233.33,786.67 258.33,811.67 408.33,811.67 433.33,786.67 433.33,778.33 433.33,645 408.33,620 ; 283.33,211.67 283.33,361.67 ; 308.33,361.67 308.33,311.67 ccw(c333.33,311.67) 358.33,311.67 358.33,361.67 ; 333.25,644.91 ccw(c383.33,695) 433.42,644.91 ; 333.25,786.75 cw(c383.33,736.67) 433.42,786.75 ; 333.33,645 333.33,786.67 ; 383.33,211.67 383.33,361.67
  text "34" at 73.33,191.67 h50
  text "33" at 13.33,91.67 h50
  text "1" at 53.33,-28.33 h50
  text "17" at -1866.67,-28.33 h50
  text "18" at -1826.67,91.67 h50
  text "50" at -1866.67,191.67 h50

## DB50SS [mil]
pads (52):
  oct 62x62 hole 35: 1(0,0)
  round 62 hole 35: 2(-108.33,0) 3(-216.67,0) 4(-325,0) 5(-433.33,0) 6(-541.67,0) 7(-650,0) 8(-758.33,0) 9(-866.67,0) 10(-975,0) 11(-1083.33,0) 12(-1191.67,0) 13(-1300,0) 14(-1408.33,0) 15(-1516.67,0) 16(-1625,0) 17(-1733.33,0) 18(-58.33,100) 19(-166.67,100) 20(-275,100) 21(-383.33,100) 22(-491.67,100) 23(-600,100) 24(-708.33,100) 25(-816.67,100) 26(-925,100) 27(-1033.33,100) 28(-1141.67,100) 29(-1250,100) 30(-1358.33,100) 31(-1466.67,100) 32(-1575,100) 33(-1683.33,100) 34(0,200) 35(-108.33,200) 36(-216.67,200) 37(-325,200) 38(-433.33,200) 39(-541.67,200) 40(-650,200) 41(-758.33,200) 42(-866.67,200) 43(-975,200) 44(-1083.33,200) 45(-1191.67,200) 46(-1300,200) 47(-1408.33,200) 48(-1516.67,200) 49(-1625,200) 50(-1733.33,200)
  round 196.67 hole 118.33: BO1(-2066.67,100) BO2(333.33,100)
TopOverlay:
  lines w8: -1920,-41.67 -1833.33,250 ; -1918.64,-40.18 ccw(c-1866.67,-66.67) -1866.67,-125 133.33,-125 ccw(c133.33,-66.67) 189.41,-50.59 ; -1833.58,249.54 cw(c-1741.67,233.33) -1765.82,323.49 ; -1808.33,258.33 -1900,-66.67 ccw(c-1866.67,-66.67) -1866.67,-100 133.33,-100 ccw(c133.33,-66.67) 165.04,-56.37 ; -1807.79,258.72 cw(c-1741.67,233.33) -1767.05,299.46 ; -1766.67,300 41.67,300 ; -1758.33,325 41.67,325 ; 41.29,300.21 cw(c33.33,250) 83.54,257.95 ; 41.67,325.83 cw(c41.67,258.33) 108.66,266.56 ; 83.33,258.33 166.67,-66.67 ; 108.33,266.67 188.33,-51.67 ; -2191.66,-166.67 ccw(c-2150,-166.67) -2150,-208.33 416.67,-208.33 ccw(c416.67,-166.67) 458.33,-166.67 458.33,366.67 ccw(c416.67,366.67) 416.67,408.33 -2150,408.33 ccw(c-2150,366.67) -2191.66,366.67 -2191.67,-166.67
  text "50" at -1866.67,180 h50
  text "33" at -1826.67,80 h50
  text "17" at -1866.67,-40 h50
  text "1" at 53.33,-20 h50
  text "18" at -6.67,80 h50
  text "34" at 53.33,180 h50